# Altium footprint library CONN_AE-6410-02A_MOL.PcbLib: 1 footprints
Each footprint in its own frame and in the unit in brackets; x right, y up, seen from the top. Pads: shape width x height; smd on the part's side, far side on the other; paste and mask are expansions set on the pad; w line width, h text height; cw(c..) or ccw(c..) is an arc to the next point about the centre after c.
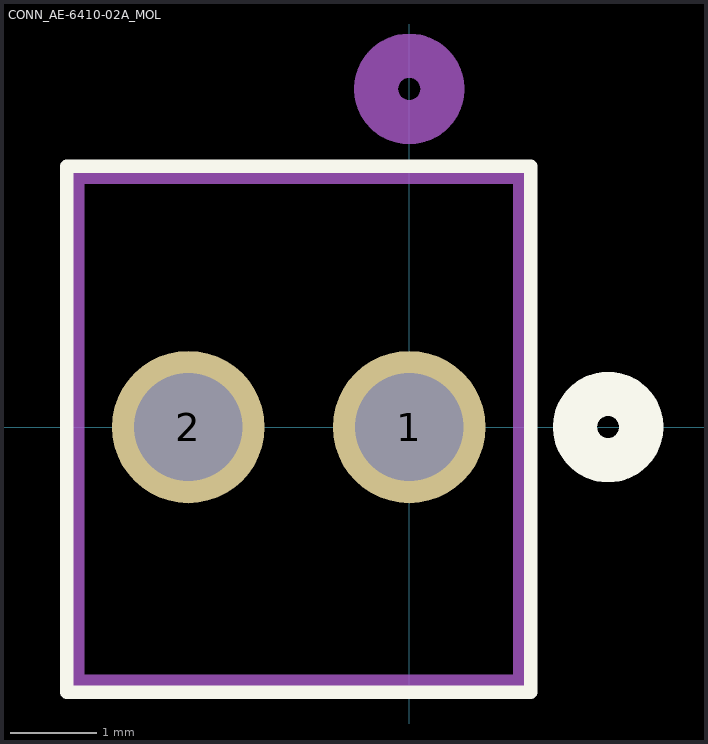
[diagram p0: the footprint, top view; thin cyan lines are the x and y axes]

## CONN_AE-6410-02A_MOL [mil]
pads (2):
  round 69 hole 49 mask+4.02: 1(0,0) 2(-100,0)
Top Overlay:
  lines w6: -155,-120 55,-120 55,118 -155,118 -155,-120
  lines w20: 75,0 ccw(c90,0) 105,0 ccw(c90,0) 75,0
Bottom Overlay:
  lines w20: 75,0 ccw(c90,0) 105,0 ccw(c90,0) 75,0
Assembly Top:
  lines w6: -150,-115 50,-115 50,113 -150,113 -150,-115
  lines w20: -15,153 ccw(c0,153) 15,153 ccw(c0,153) -15,153